# Altium footprint library S8B-XH-A.PcbLib: 1 footprints
Each footprint in its own frame and in the unit in brackets; x right, y up, seen from the top. Pads: shape width x height; smd on the part's side, far side on the other; paste and mask are expansions set on the pad; w line width, h text height; cw(c..) or ccw(c..) is an arc to the next point about the centre after c.
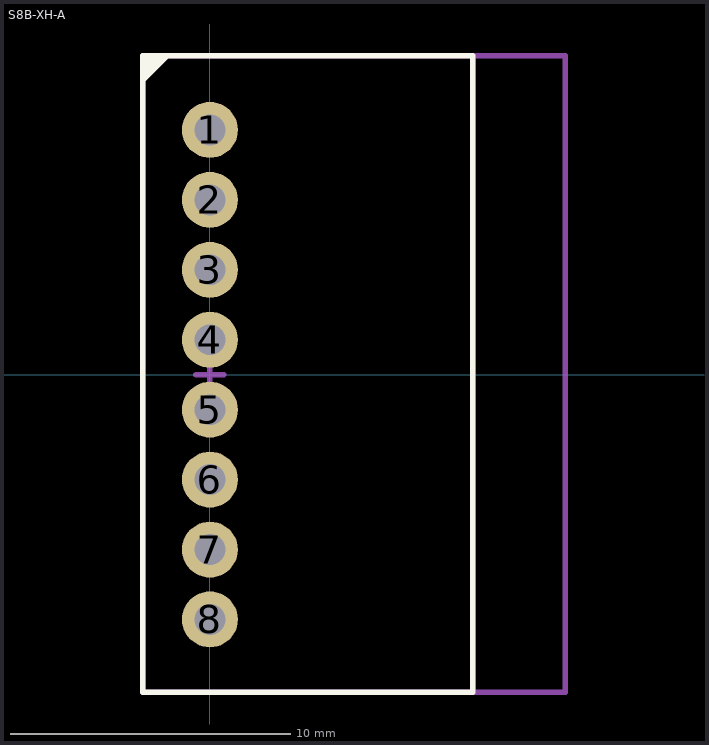
[diagram p0: the footprint, top view; thin cyan lines are the x and y axes]

## S8B-XH-A [mm] "2.5mm 8 pin male"
height 6
pads (8):
  round 2 hole 1.1: 1(0,8.75) 2(0,6.25) 3(0,3.75) 4(0,1.25) 5(0,-1.25) 6(0,-3.75) 7(0,-6.25) 8(0,-8.75)
Top Overlay:
  region: -2.35,11.35 -2.35,10.45 -1.45,11.35
  lines w0.2: -2.4,-11.35 -2.4,11.4 9.4,11.4 9.4,-11.35 -2.4,-11.35
Top Assembly:
  lines w0.2: -2.4,-11.35 9.4,-11.35 9.4,11.4 -2.4,11.4 -2.4,-11.35
Top Courtyard:
  lines w0.2: -2.4,-11.35 12.7,-11.35 12.7,11.4 -2.4,11.4 -2.4,-11.35
Top Component Center:
  lines w0.2: -0.5,0 0.5,0 ; 0,-0.5 0,0.5
3D body "S8B-XH-A.STEP": height 6.1, standoff -3.4, extent -2.3,-11.15 9.2,11.25
3D body "XHP-8.stp": height 5.8, standoff 0.1, extent 3.675,-11.175 12.525,10.925